# Altium footprint library MICROCHIP_DIP40-600MIL.PcbLib: 1 footprints
Each footprint in its own frame and in the unit in brackets; x right, y up, seen from the top. Pads: shape width x height; smd on the part's side, far side on the other; paste and mask are expansions set on the pad; w line width, h text height; cw(c..) or ccw(c..) is an arc to the next point about the centre after c.
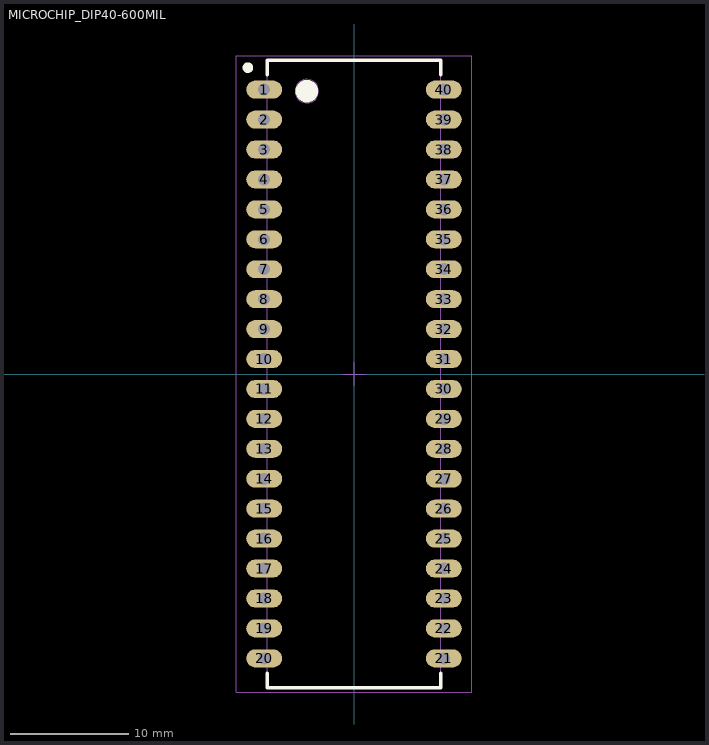
[diagram p0: the footprint, top view; thin cyan lines are the x and y axes]

## MICROCHIP_DIP40-600MIL [mil] "MICROCHIP_DIP40-600MIL"
height 250
pads (40):
  rrect100% 120x60 hole 40 mask+1.97: 1(-300,950) 2(-300,850) 3(-300,750) 4(-300,650) 5(-300,550) 6(-300,450) 7(-300,350) 8(-300,250) 9(-300,150) 10(-300,50) 11(-300,-50) 12(-300,-150) 13(-300,-250) 14(-300,-350) 15(-300,-450) 16(-300,-550) 17(-300,-650) 18(-300,-750) 19(-300,-850) 20(-300,-950) 21(300,-950) 22(300,-850) 23(300,-750) 24(300,-650) 25(300,-550) 26(300,-450) 27(300,-350) 28(300,-250) 29(300,-150) 30(300,-50) 31(300,50) 32(300,150) 33(300,250) 34(300,350) 35(300,450) 36(300,550) 37(300,650) 38(300,750) 39(300,850) 40(300,950)
Top Overlay:
  circle w19.68: c-354.33,1023.62 r7.87
  circle w59.06: c-157.48,944.88 r7.87
  lines w11.81: -290,-1000.14 -290,-1047.5 290,-1047.5 290,-1000.14 ; -290,1000.14 -290,1047.5 290,1047.5 290,1000.14
Mechanical 13:
  circle w3.94: c-157.48,944.88 r39.37
  lines w3.94: -290,-1047.5 290,-1047.5 290,1047.5 -290,1047.5 -290,-1047.5
Mechanical 15:
  lines w1.97: -393.7,-1062.99 -393.7,1062.99 393.7,1062.99 393.7,-1062.99 -393.7,-1062.99
  lines w3.94: -39.37,0 39.37,0 ; 0,-39.37 0,39.37
3D body "MICROCHIP_DIP40-600MIL.step": height 163.58, standoff -125.98, extent -305.71,-1028.74 305.71,1028.74